# Altium footprint library Crystal.PcbLib: 185 footprints (part 2 of 12)
Each footprint in its own frame and in the unit in brackets; x right, y up, seen from the top. Pads: shape width x height; smd on the part's side, far side on the other; paste and mask are expansions set on the pad; w line width, h text height; cw(c..) or ccw(c..) is an arc to the next point about the centre after c.
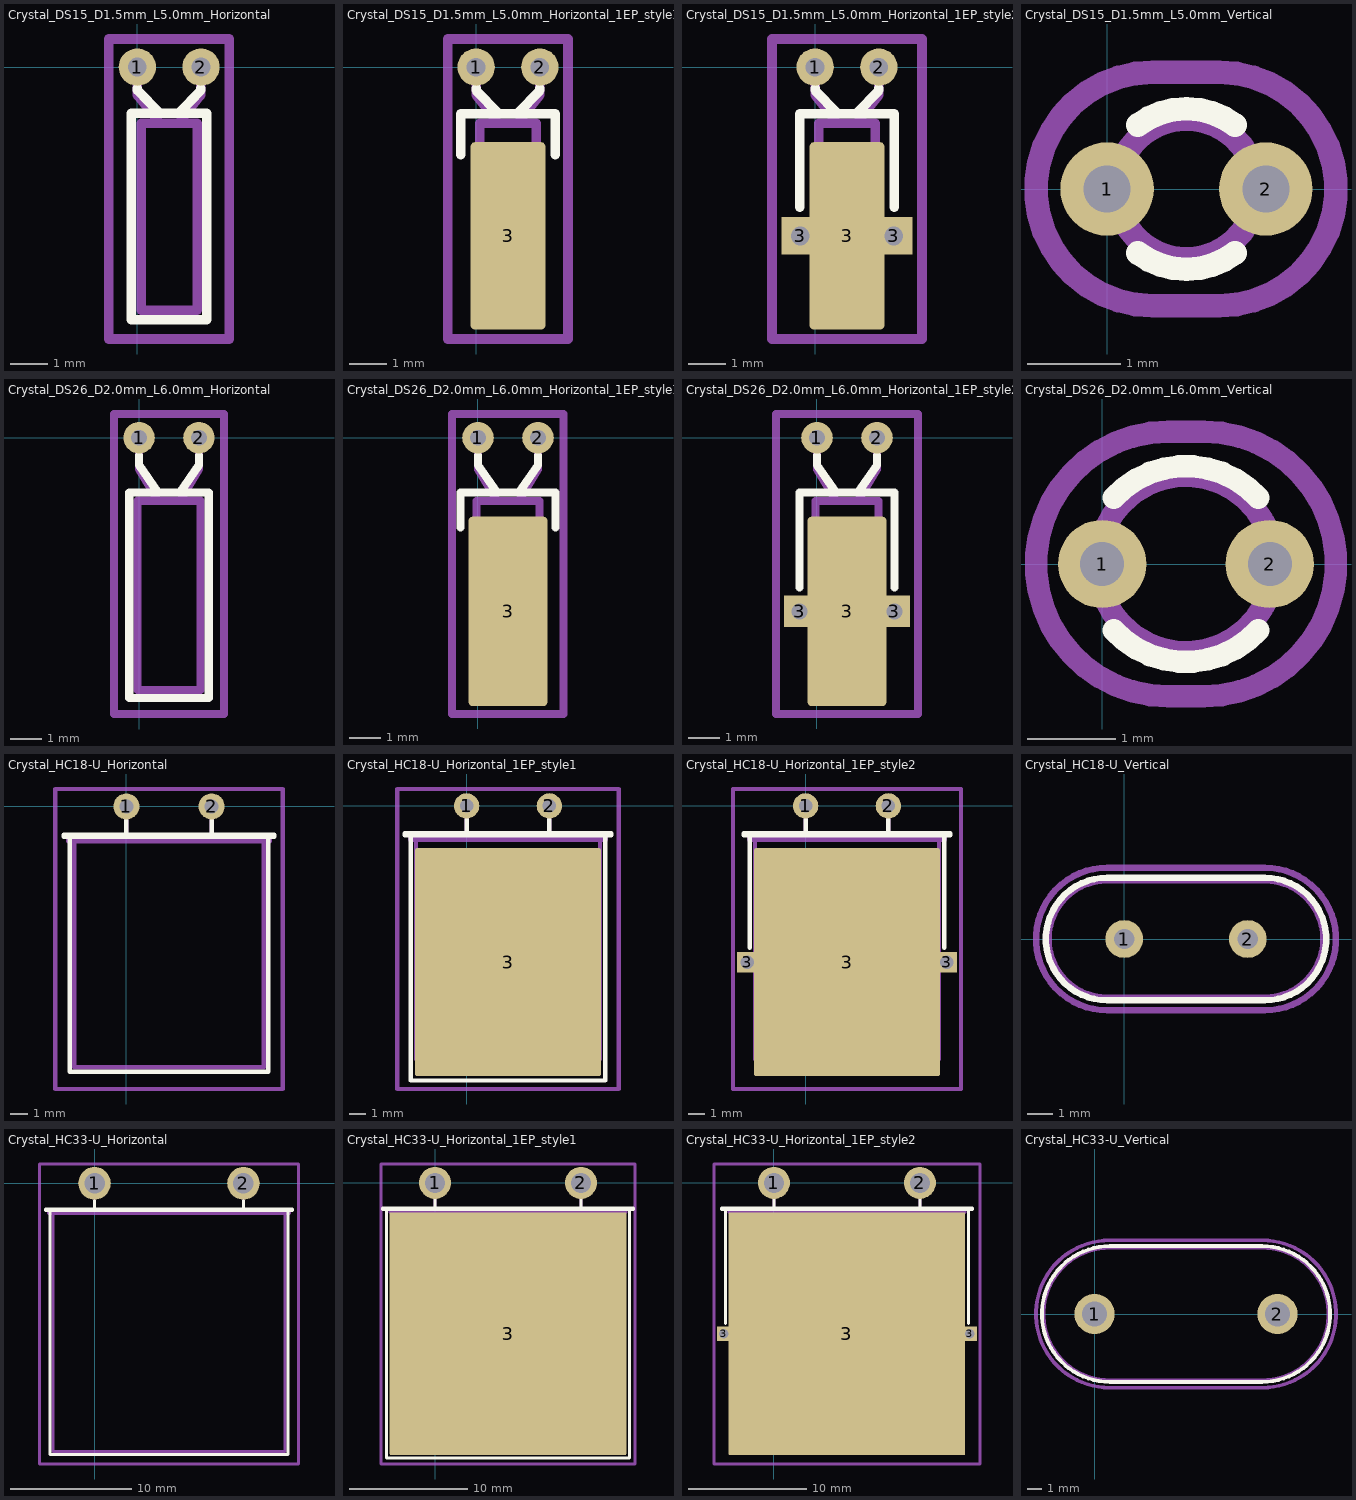
[diagram p1: the footprints below, top view; thin cyan lines are the x and y axes]

## Crystal_DS15_D1.5mm_L5.0mm_Horizontal [mm]
pads (2):
  round 1 hole 0.5: 1(0,0) 2(1.7,0)
F.SilkS:
  lines w0.254: 0,-0.56 0,-0.62 0.6,-1.24 ; 1.1,-1.24 1.7,-0.62 1.7,-0.56 ; -0.16,-6.76 1.86,-6.76 1.86,-1.24 -0.16,-1.24 -0.16,-6.76
Top Assembly:
  lines w0.254: 0,0 0,-0.75 0.6,-1.5 ; 1.1,-1.5 1.7,-0.75 1.7,0 ; 0.1,-6.5 1.6,-6.5 1.6,-1.5 0.1,-1.5 0.1,-6.5
  text "'.Designator'" at 1.69,-8.103 h1
Top Courtyard:
  lines w0.254: -0.76,-7.27 2.45,-7.27 2.45,0.75 -0.76,0.75 -0.76,-7.27
Top Designator:
  text ".Designator" at -6.773,-4.196 h1.52

## Crystal_DS15_D1.5mm_L5.0mm_Horizontal_1EP_style1 [mm]
pads (3):
  round 1 hole 0.5: 1(0,0) 2(1.7,0)
  rrect12% 2x5 smd: 3(0.85,-4.5)
F.SilkS:
  lines w0.254: -0.41,-2.34 -0.41,-1.24 2.11,-1.24 2.11,-2.34 ; 0,-0.56 0,-0.62 0.6,-1.24 ; 1.1,-1.24 1.7,-0.62 1.7,-0.56
Top Assembly:
  lines w0.254: 0,0 0,-0.75 0.6,-1.5 ; 1.1,-1.5 1.7,-0.75 1.7,0 ; 0.1,-6.5 0.1,-1.5 1.6,-1.5 1.6,-6.5 0.1,-6.5
  text "'.Designator'" at 1.69,-8.097 h1
Top Courtyard:
  lines w0.254: -0.76,-7.25 -0.76,0.75 2.45,0.75 2.45,-7.25 -0.76,-7.25
Top Designator:
  text ".Designator" at -6.773,-4.193 h1.52

## Crystal_DS15_D1.5mm_L5.0mm_Horizontal_1EP_style2 [mm]
pads (5):
  round 1 hole 0.5: 1(0,0) 2(1.7,0)
  rect 1x1 hole 0.5: 3(-0.4,-4.5) 3(2.1,-4.5)
  rrect12% 2x5 smd: 3(0.85,-4.5)
F.SilkS:
  lines w0.254: -0.41,-3.74 -0.41,-1.24 2.11,-1.24 2.11,-3.74 ; 0,-0.56 0,-0.62 0.6,-1.24 ; 1.1,-1.24 1.7,-0.62 1.7,-0.56
Top Assembly:
  lines w0.254: -0.4,-4.5 2.1,-4.5 ; 0,0 0,-0.75 0.6,-1.5 ; 1.1,-1.5 1.7,-0.75 1.7,0 ; 0.1,-6.5 0.1,-1.5 1.6,-1.5 1.6,-6.5 0.1,-6.5
  text "'.Designator'" at 1.69,-8.097 h1
Top Courtyard:
  lines w0.254: -1.15,-7.25 -1.15,0.75 2.85,0.75 2.85,-7.25 -1.15,-7.25
Top Designator:
  text ".Designator" at -6.768,-4.193 h1.52

## Crystal_DS15_D1.5mm_L5.0mm_Vertical [mm]
pads (2):
  round 1 hole 0.5: 1(0,0) 2(1.7,0)
F.SilkS:
  lines w0.254: 0.33,-0.685 ccw(c0.85,0) 1.37,-0.685 ; 0.33,0.685 cw(c0.85,0) 1.37,0.685
Top Assembly:
  circle w0.254: c0.85,0 r0.75
  text "'.Designator'" at -0.691,-0.322 h0.38
Top Courtyard:
  lines w0.254: 0.49,-1.25 cw(c0.49,0) 0.49,1.25 1.2,1.25 cw(c1.2,0) 1.2,-1.25 0.49,-1.25
Top Designator:
  text ".Designator" at -6.773,-0.508 h1.52

## Crystal_DS26_D2.0mm_L6.0mm_Horizontal [mm]
pads (2):
  round 1 hole 0.5: 1(0,0) 2(1.9,0)
F.SilkS:
  lines w0.254: 0,-0.56 0,-0.87 0.6,-1.74 ; 1.3,-1.74 1.9,-0.87 1.9,-0.56 ; -0.31,-8.26 2.21,-8.26 2.21,-1.74 -0.31,-1.74 -0.31,-8.26
Top Assembly:
  lines w0.254: 0,0 0,-1 0.6,-2 ; 1.3,-2 1.9,-1 1.9,0 ; -0.05,-8 1.95,-8 1.95,-2 -0.05,-2 -0.05,-8
  text "'.Designator'" at 1.79,-9.003 h1
Top Courtyard:
  lines w0.254: -0.8,-8.76 2.7,-8.76 2.7,0.75 -0.8,0.75 -0.8,-8.76
Top Designator:
  text ".Designator" at -6.668,-4.646 h1.52

## Crystal_DS26_D2.0mm_L6.0mm_Horizontal_1EP_style1 [mm]
pads (3):
  round 1 hole 0.5: 1(0,0) 2(1.9,0)
  rrect10% 2.5x6 smd: 3(0.95,-5.5)
F.SilkS:
  lines w0.254: -0.56,-2.84 -0.56,-1.74 2.46,-1.74 2.46,-2.84 ; 0,-0.56 0,-0.87 0.6,-1.74 ; 1.3,-1.74 1.9,-0.87 1.9,-0.56
Top Assembly:
  lines w0.254: 0,0 0,-1 0.6,-2 ; 1.3,-2 1.9,-1 1.9,0 ; -0.05,-8 1.95,-8 1.95,-2 -0.05,-2 -0.05,-8
  text "'.Designator'" at 1.79,-8.997 h1
Top Courtyard:
  lines w0.254: -0.82,-8.75 2.71,-8.75 2.71,0.75 -0.82,0.75 -0.82,-8.75
Top Designator:
  text ".Designator" at -6.673,-4.643 h1.52

## Crystal_DS26_D2.0mm_L6.0mm_Horizontal_1EP_style2 [mm]
pads (5):
  round 1 hole 0.5: 1(0,0) 2(1.9,0)
  rect 1x1 hole 0.5: 3(-0.55,-5.5) 3(2.45,-5.5)
  rrect10% 2.5x6 smd: 3(0.95,-5.5)
F.SilkS:
  lines w0.254: -0.56,-4.74 -0.56,-1.74 2.46,-1.74 2.46,-4.74 ; 0,-0.56 0,-0.87 0.6,-1.74 ; 1.3,-1.74 1.9,-0.87 1.9,-0.56
Top Assembly:
  lines w0.254: -0.55,-5.5 2.45,-5.5 ; 0,0 0,-1 0.6,-2 ; 1.3,-2 1.9,-1 1.9,0 ; -0.05,-8 1.95,-8 1.95,-2 -0.05,-2 -0.05,-8
  text "'.Designator'" at 1.79,-8.997 h1
Top Courtyard:
  lines w0.254: -1.3,-8.75 3.2,-8.75 3.2,0.75 -1.3,0.75 -1.3,-8.75
Top Designator:
  text ".Designator" at -6.668,-4.643 h1.52

## Crystal_DS26_D2.0mm_L6.0mm_Vertical [mm]
pads (2):
  round 1 hole 0.5: 1(0,0) 2(1.9,0)
F.SilkS:
  lines w0.254: 0.131,-0.749 ccw(c0.95,0) 1.769,-0.749 ; 0.131,0.749 cw(c0.95,0) 1.769,0.749
Top Assembly:
  circle w0.254: c0.95,0 r1
  text "'.Designator'" at -1.078,-0.425 h0.5
Top Courtyard:
  lines w0.254: 0.75,-1.5 cw(c0.75,0) 0.75,1.5 1.15,1.5 cw(c1.15,0) 1.15,-1.5 0.75,-1.5
Top Designator:
  text ".Designator" at -6.748,-0.508 h1.52

## Crystal_HC18-U_Horizontal [mm]
pads (2):
  round 1.5 hole 0.8: 1(0,0) 2(4.9,0)
F.SilkS:
  lines w0.254: 0,-1.74 0,-0.87 0,-0.81 ; 4.9,-1.74 4.9,-0.87 4.9,-0.81 ; -3.61,-1.74 8.51,-1.74 8.51,-1.62 -3.61,-1.62 -3.61,-1.74 ; -3.26,-15.26 8.16,-15.26 8.16,-1.74 -3.26,-1.74 -3.26,-15.26
Top Assembly:
  lines w0.254: 0,-2 0,-1 0,0 ; 4.9,-2 4.9,-1 4.9,0 ; -3.35,-2 8.25,-2 8.25,-1.9 -3.35,-1.9 -3.35,-2 ; -3,-15 7.9,-15 7.9,-2 -3,-2 -3,-15
  text "'.Designator'" at 3.29,-13.397 h1
Top Courtyard:
  lines w0.254: -4.1,-16.25 9,-16.25 9,1 -4.1,1 -4.1,-16.25
Top Designator:
  text ".Designator" at -5.168,-8.133 h1.52

## Crystal_HC18-U_Horizontal_1EP_style1 [mm]
pads (3):
  round 1.5 hole 0.8: 1(0,0) 2(4.9,0)
  rrect2% 11x13.5 smd: 3(2.45,-9.25)
F.SilkS:
  lines w0.254: 0,-1.74 0,-0.87 0,-0.81 ; 4.9,-1.74 4.9,-0.87 4.9,-0.81 ; -3.66,-1.74 8.56,-1.74 8.56,-1.62 -3.66,-1.62 -3.66,-1.74 ; -3.31,-16.26 8.21,-16.26 8.21,-1.74 -3.31,-1.74 -3.31,-16.26
Top Assembly:
  lines w0.254: 0,-2 0,-1 0,0 ; 4.9,-2 4.9,-1 4.9,0 ; -3.35,-2 8.25,-2 8.25,-1.9 -3.35,-1.9 -3.35,-2 ; -3,-15 7.9,-15 7.9,-2 -3,-2 -3,-15
  text "'.Designator'" at 3.29,-13.703 h1
Top Courtyard:
  lines w0.254: -4.1,-16.76 9,-16.76 9,1 -4.1,1 -4.1,-16.76
Top Designator:
  text ".Designator" at -5.168,-8.388 h1.52

## Crystal_HC18-U_Horizontal_1EP_style2 [mm]
pads (5):
  round 1.5 hole 0.8: 1(0,0) 2(4.9,0)
  rect 1.2x1.2 hole 0.8: 3(-3.45,-9.25) 3(8.35,-9.25)
  rrect2% 11x13.5 smd: 3(2.45,-9.25)
F.SilkS:
  lines w0.254: -3.31,-8.39 -3.31,-1.74 8.21,-1.74 8.21,-8.39 ; 0,-1.74 0,-0.87 0,-0.81 ; 4.9,-1.74 4.9,-0.87 4.9,-0.81 ; -3.66,-1.74 8.56,-1.74 8.56,-1.62 -3.66,-1.62 -3.66,-1.74
Top Assembly:
  lines w0.254: -3.45,-9.25 8.35,-9.25 ; 0,-2 0,-1 0,0 ; 4.9,-2 4.9,-1 4.9,0 ; -3.35,-2 8.25,-2 8.25,-1.9 -3.35,-1.9 -3.35,-2 ; -3,-15 7.9,-15 7.9,-2 -3,-2 -3,-15
  text "'.Designator'" at 3.29,-13.703 h1
Top Courtyard:
  lines w0.254: -4.3,-16.76 9.2,-16.76 9.2,1 -4.3,1 -4.3,-16.76
Top Designator:
  text ".Designator" at -5.168,-8.388 h1.52

## Crystal_HC18-U_Vertical [mm]
pads (2):
  round 1.5 hole 0.8: 1(0,0) 2(4.9,0)
F.SilkS:
  lines w0.254: -0.675,-2.435 cw(c-0.675,0) -0.675,2.435 5.575,2.435 cw(c5.575,0) 5.575,-2.435 -0.675,-2.435
Top Assembly:
  lines w0.254: -0.675,-2.325 cw(c-0.675,0) -0.675,2.325 5.575,2.325 cw(c5.575,0) 5.575,-2.325 -0.675,-2.325
  text "'.Designator'" at -1.597,-0.84 h1
Top Courtyard:
  lines w0.254: -0.67,-2.83 cw(c-0.67,0) -0.67,2.83 5.57,2.83 cw(c5.57,0) 5.57,-2.83 -0.67,-2.83
Top Designator:
  text ".Designator" at -5.168,-0.508 h1.52

## Crystal_HC33-U_Horizontal [mm]
pads (2):
  round 2.7 hole 1.7: 1(0,0) 2(12.34,0)
F.SilkS:
  lines w0.254: 0,-2.24 0,-1.41 ; 12.34,-2.24 12.34,-1.41 ; -4.055,-2.24 16.395,-2.24 16.395,-2.12 -4.055,-2.12 -4.055,-2.24 ; -3.705,-22.46 16.045,-22.46 16.045,-2.24 -3.705,-2.24 -3.705,-22.46
Top Assembly:
  lines w0.254: 0,-2.5 0,-1.25 0,0 ; 12.34,-2.5 12.34,-1.25 12.34,0 ; -3.795,-2.5 16.135,-2.5 16.135,-2.4 -3.795,-2.4 -3.795,-2.5 ; -3.445,-22.2 15.785,-22.2 15.785,-2.5 -3.445,-2.5 -3.445,-22.2
  text "'.Designator'" at 7.01,-17.357 h1
Top Courtyard:
  lines w0.254: -4.55,-23.25 16.89,-23.25 16.89,1.6 -4.55,1.6 -4.55,-23.25
Top Designator:
  text ".Designator" at -1.448,-11.333 h1.52

## Crystal_HC33-U_Horizontal_1EP_style1 [mm]
pads (3):
  round 2.7 hole 1.7: 1(0,0) 2(12.34,0)
  rrect1% 20x20.5 smd: 3(6.17,-12.75)
F.SilkS:
  lines w0.254: 0,-2.24 0,-1.41 ; 12.34,-2.24 12.34,-1.41 ; -4.44,-2.24 16.78,-2.24 16.78,-2.12 -4.44,-2.12 -4.44,-2.24 ; -4.09,-23.26 16.43,-23.26 16.43,-2.24 -4.09,-2.24 -4.09,-23.26
Top Assembly:
  lines w0.254: 0,-2.5 0,-1.25 0,0 ; 12.34,-2.5 12.34,-1.25 12.34,0 ; -3.795,-2.5 16.135,-2.5 16.135,-2.4 -3.795,-2.4 -3.795,-2.5 ; -3.445,-22.2 15.785,-22.2 15.785,-2.5 -3.445,-2.5 -3.445,-22.2
  text "'.Designator'" at 7.01,-17.663 h1
Top Courtyard:
  lines w0.254: -4.55,-23.76 16.89,-23.76 16.89,1.6 -4.55,1.6 -4.55,-23.76
Top Designator:
  text ".Designator" at -1.448,-11.588 h1.52

## Crystal_HC33-U_Horizontal_1EP_style2 [mm]
pads (5):
  round 2.7 hole 1.7: 1(0,0) 2(12.34,0)
  rect 1.2x1.2 hole 0.8: 3(-4.23,-12.75) 3(16.57,-12.75)
  rrect1% 20x20.5 smd: 3(6.17,-12.75)
F.SilkS:
  lines w0.254: -4.09,-11.89 -4.09,-2.24 16.43,-2.24 16.43,-11.89 ; 0,-2.24 0,-1.41 ; 12.34,-2.24 12.34,-1.41 ; -4.44,-2.24 16.78,-2.24 16.78,-2.12 -4.44,-2.12 -4.44,-2.24
Top Assembly:
  lines w0.254: -4.23,-12.75 16.57,-12.75 ; 0,-2.5 0,-1.25 0,0 ; 12.34,-2.5 12.34,-1.25 12.34,0 ; -3.795,-2.5 16.135,-2.5 16.135,-2.4 -3.795,-2.4 -3.795,-2.5 ; -3.445,-22.2 15.785,-22.2 15.785,-2.5 -3.445,-2.5 -3.445,-22.2
  text "'.Designator'" at 7.01,-17.663 h1
Top Courtyard:
  lines w0.254: -5.08,-23.76 17.43,-23.76 17.43,1.6 -5.08,1.6 -5.08,-23.76
Top Designator:
  text ".Designator" at -1.443,-11.588 h1.52

## Crystal_HC33-U_Vertical [mm]
pads (2):
  round 2.7 hole 1.7: 1(0,0) 2(12.34,0)
F.SilkS:
  lines w0.254: 1.025,-4.58 cw(c1.025,0) 1.025,4.58 11.315,4.58 cw(c11.315,0) 11.315,-4.58 1.025,-4.58
Top Assembly:
  lines w0.254: 1.025,-4.47 cw(c1.025,0) 1.025,4.47 11.315,4.47 cw(c11.315,0) 11.315,-4.47 1.025,-4.47
  text "'.Designator'" at 2.123,-0.84 h1
Top Courtyard:
  lines w0.254: 1.02,-4.97 cw(c1.02,0) 1.02,4.97 11.32,4.97 cw(c11.32,0) 11.32,-4.97 1.02,-4.97
Top Designator:
  text ".Designator" at -1.448,-0.508 h1.52